# EAGLE library part TNT4882 (library national-instruments)
High-Performance Single-Chip GPIB Talker/Listener ASIC Source: http://www.ni.com/pdf/products/us/0gpc763a.pdf http://www.ni.com/pdf/products/us/4gpib702-703.pdf
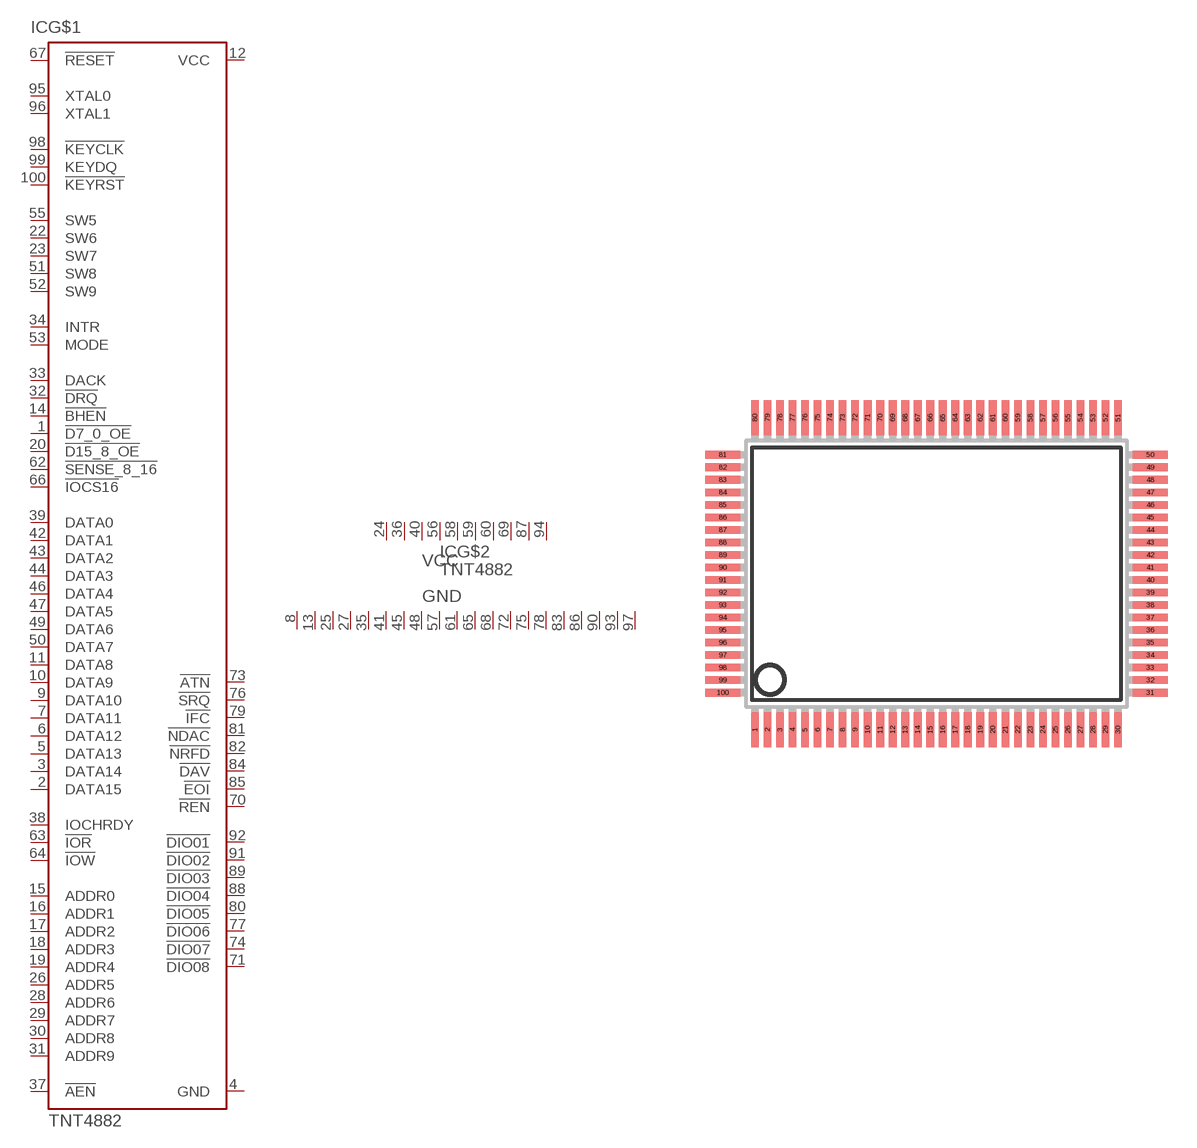
[diagram p0: symbol with the pads of QFP100R; footprint QFP100R]

Designator prefix IC; gates G$1=TNT4882 G$2=TNT4882-PWR

## TNT4882 (OC_FARNELL: unknown; OC_NEWARK: unknown)  [QFP100R]
1  G$1:!D7_0_OE  out
2  G$1:DATA15
3  G$1:DATA14
4  G$1:GND  pwr
5  G$1:DATA13
6  G$1:DATA12
7  G$1:DATA11
8  G$2:GND  pwr
9  G$1:DATA10
10  G$1:DATA9
11  G$1:DATA8
12  G$1:VCC  pwr
13  G$2:GND  pwr
14  G$1:!BHEN  in
15  G$1:ADDR0  in
16  G$1:ADDR1  in
17  G$1:ADDR2  in
18  G$1:ADDR3  in
19  G$1:ADDR4  in
20  G$1:!D15_8_OE  out
22  G$1:SW6  in
23  G$1:SW7  in
24  G$2:VCC  pwr
25  G$2:GND  pwr
26  G$1:ADDR5  in
27  G$2:GND  pwr
28  G$1:ADDR6  in
29  G$1:ADDR7  in
30  G$1:ADDR8  in
31  G$1:ADDR9  in
32  G$1:!DRQ  out
33  G$1:DACK  in
34  G$1:INTR  out
35  G$2:GND  pwr
36  G$2:VCC  pwr
37  G$1:!AEN  in
38  G$1:IOCHRDY  oc
39  G$1:DATA0
40  G$2:VCC  pwr
41  G$2:GND  pwr
42  G$1:DATA1
43  G$1:DATA2
44  G$1:DATA3
45  G$2:GND  pwr
46  G$1:DATA4
47  G$1:DATA5
48  G$2:GND  pwr
49  G$1:DATA6
50  G$1:DATA7
51  G$1:SW8  in
52  G$1:SW9  in
53  G$1:MODE  in
55  G$1:SW5  in
56  G$2:VCC  pwr
57  G$2:GND  pwr
58  G$2:VCC  pwr
59  G$2:VCC  pwr
60  G$2:VCC  pwr
61  G$2:GND  pwr
62  G$1:!SENSE_8_16  in
63  G$1:!IOR  in
64  G$1:!IOW  in
65  G$2:GND  pwr
66  G$1:!IOCS16  oc
67  G$1:!RESET  in
68  G$2:GND  pwr
69  G$2:VCC  pwr
70  G$1:!REN
71  G$1:!DIO08
72  G$2:GND  pwr
73  G$1:!ATN
74  G$1:!DIO07
75  G$2:GND  pwr
76  G$1:!SRQ
77  G$1:!DIO06
78  G$2:GND  pwr
79  G$1:!IFC
80  G$1:!DIO05
81  G$1:!NDAC
82  G$1:!NRFD
83  G$2:GND  pwr
84  G$1:!DAV
85  G$1:!EOI
86  G$2:GND  pwr
87  G$2:VCC  pwr
88  G$1:!DIO04
89  G$1:!DIO03
90  G$2:GND  pwr
91  G$1:!DIO02
92  G$1:!DIO01
93  G$2:GND  pwr
94  G$2:VCC  pwr
95  G$1:XTAL0  out
96  G$1:XTAL1  in
97  G$2:GND  pwr
98  G$1:!KEYCLK  out
99  G$1:KEYDQ
100  G$1:!KEYRST  out

## Footprint QFP100R (pad centres in mm)
Quad Flat Pack Package 100 Pin Rectangle Source: Siemens dpc31_d.pdf
smd 0.4 x 1.8: 1 -9.425,-8.1; 2 -8.775,-8.1; 3 -8.125,-8.1; 4 -7.475,-8.1; 5 -6.825,-8.1; 6 -6.175,-8.1; 7 -5.525,-8.1; 8 -4.875,-8.1; 9 -4.225,-8.1; 10 -3.575,-8.1; 11 -2.925,-8.1; 12 -2.275,-8.1; 13 -1.625,-8.1; 14 -0.975,-8.1; 15 -0.325,-8.1; 16 0.325,-8.1; 17 0.975,-8.1; 18 1.625,-8.1; 19 2.275,-8.1; 20 2.925,-8.1; 21 3.575,-8.1; 22 4.225,-8.1; 23 4.875,-8.1; 24 5.525,-8.1; 25 6.175,-8.1; 26 6.825,-8.1; 27 7.475,-8.1; 28 8.125,-8.1; 29 8.775,-8.1; 30 9.425,-8.1; 51 9.425,8.1; 52 8.775,8.1; 53 8.125,8.1; 54 7.475,8.1; 55 6.825,8.1; 56 6.175,8.1; 57 5.525,8.1; 58 4.875,8.1; 59 4.225,8.1; 60 3.575,8.1; 61 2.925,8.1; 62 2.275,8.1; 63 1.625,8.1; 64 0.975,8.1; 65 0.325,8.1; 66 -0.325,8.1; 67 -0.975,8.1; 68 -1.625,8.1; 69 -2.275,8.1; 70 -2.925,8.1; 71 -3.575,8.1; 72 -4.225,8.1; 73 -4.875,8.1; 74 -5.525,8.1; 75 -6.175,8.1; 76 -6.825,8.1; 77 -7.475,8.1; 78 -8.125,8.1; 79 -8.775,8.1; 80 -9.425,8.1
smd 1.8 x 0.4: 31 11.1,-6.175; 32 11.1,-5.525; 33 11.1,-4.875; 34 11.1,-4.225; 35 11.1,-3.575; 36 11.1,-2.925; 37 11.1,-2.275; 38 11.1,-1.625; 39 11.1,-0.975; 40 11.1,-0.325; 41 11.1,0.325; 42 11.1,0.975; 43 11.1,1.625; 44 11.1,2.275; 45 11.1,2.925; 46 11.1,3.575; 47 11.1,4.225; 48 11.1,4.875; 49 11.1,5.525; 50 11.1,6.175; 81 -11.1,6.175; 82 -11.1,5.525; 83 -11.1,4.875; 84 -11.1,4.225; 85 -11.1,3.575; 86 -11.1,2.925; 87 -11.1,2.275; 88 -11.1,1.625; 89 -11.1,0.975; 90 -11.1,0.325; 91 -11.1,-0.325; 92 -11.1,-0.975; 93 -11.1,-1.625; 94 -11.1,-2.275; 95 -11.1,-2.925; 96 -11.1,-3.575; 97 -11.1,-4.225; 98 -11.1,-4.875; 99 -11.1,-5.525; 100 -11.1,-6.175